# EAGLE library part NVT2006BS (library CPSS_IC)
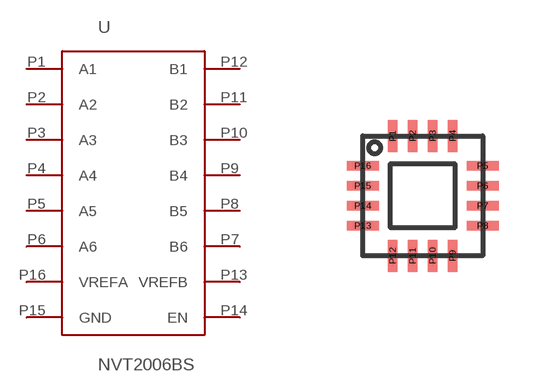
[diagram p0: symbol with the pads of HVQFN16; footprint HVQFN16]

Designator prefix -

## NVT2006BS  [HVQFN16]
P1  A1
P2  A2
P3  A3
P4  A4
P5  A5
P6  A6
P7  B6
P8  B5
P9  B4
P10  B3
P11  B2
P12  B1
P13  VREFB  sup
P14  EN  in
P15  GND  sup
P16  VREFA  sup

## Footprint HVQFN16 (pad centres in mm)
smd 0.24 x 0.8: P1 -0.75,1.5; P2 -0.25,1.5; P3 0.25,1.5; P4 0.75,1.5; P9 0.75,-1.5; P10 0.25,-1.5; P11 -0.25,-1.5; P12 -0.75,-1.5
smd 0.8 x 0.24: P5 1.5,0.75; P6 1.5,0.25; P7 1.5,-0.25; P8 1.5,-0.75; P13 -1.5,-0.75; P14 -1.5,-0.25; P15 -1.5,0.25; P16 -1.5,0.75